# Altium footprint library Parts.PcbLib: 12 footprints
Each footprint in its own frame and in the unit in brackets; x right, y up, seen from the top. Pads: shape width x height; smd on the part's side, far side on the other; paste and mask are expansions set on the pad; w line width, h text height; cw(c..) or ccw(c..) is an arc to the next point about the centre after c.
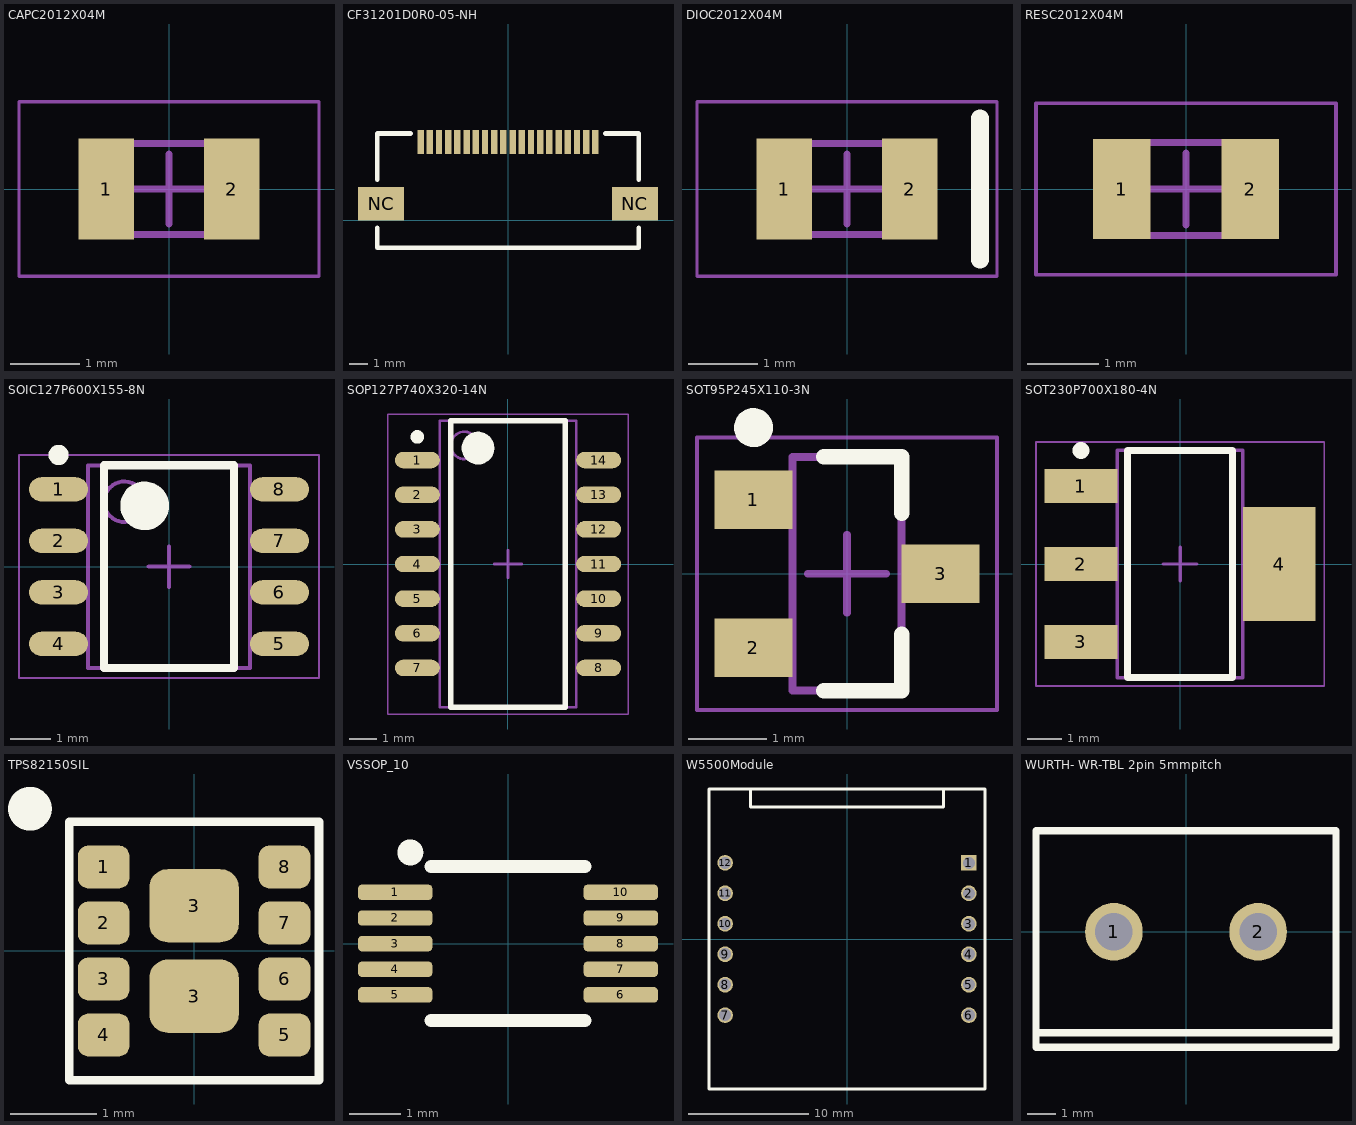
[diagram p0: the footprints below, top view; thin cyan lines are the x and y axes]

## CAPC2012X04M [mm] "Chip Capacitor, 2-Leads, Body 2.00x1.20mm, IPC Low Density"
height 0.45
pads (2):
  rect 0.8x1.45 smd: 1(-0.9,0) 2(0.9,0)
Mechanical 13:
  lines w0.1: -1.05,-0.65 -1.05,0.65 1.05,0.65 1.05,-0.65 -1.05,-0.65
Mechanical 15:
  lines w0.05: -2.15,-1.25 -2.15,1.25 2.15,1.25 2.15,-1.25 -2.15,-1.25
  lines w0.1: -0.5,0 0.5,0 ; 0,-0.5 0,0.5
3D body: height 0.45, standoff 0, extent -0.35,-0.65 0.35,0.65
3D body: height 0.45, standoff 0, extent -1.05,-0.65 -0.35,0.65
3D body: height 0.45, standoff 0, extent 0.35,-0.65 1.05,0.65

## CF31201D0R0-05-NH [mm]
height 2
pads (22):
  rect 0.35x1.3 smd: 1(-4.75,4.25) 2(-4.25,4.25) 3(-3.75,4.25) 4(-3.25,4.25) 5(-2.75,4.25) 6(-2.25,4.25) 7(-1.75,4.25) 8(-1.25,4.25) 9(-0.75,4.25) 10(-0.25,4.25) 11(0.25,4.25) 12(0.75,4.25) 13(1.25,4.25) 14(1.75,4.25) 15(2.25,4.25) 16(2.75,4.25) 17(3.25,4.25) 18(3.75,4.25) 19(4.25,4.25) 20(4.75,4.25)
  rect 2.5x1.8 smd: NC(-6.9,0.9) NC(6.9,0.9)
Top Overlay:
  lines w0.254: -7.1,-0.4 -7.1,-1.5 7.1,-1.5 7.1,-0.4 ; -7.1,2.2 -7.1,4.72 -5.3,4.72 ; 5.3,4.72 7.1,4.72 7.1,2.2

## DIOC2012X04M [mm] "Chip Diode, 2-Leads, Body 2.00x1.20mm, IPC Low Density"
height 0.45
pads (2):
  rect 0.8x1.45 smd: 1(-0.9,0) 2(0.9,0)
Top Overlay:
  lines w0.254: 1.905,-1.016 1.905,1.016
Mechanical 13:
  lines w0.1: -1.05,-0.65 1.05,-0.65 1.05,0.65 -1.05,0.65 -1.05,-0.65
Mechanical 15:
  lines w0.05: -2.15,-1.25 2.15,-1.25 2.15,1.25 -2.15,1.25 -2.15,-1.25
  lines w0.1: -0.5,0 0.5,0 ; 0,-0.5 0,0.5
3D body: height 0.45, standoff 0, extent 0.35,-0.65 1.05,0.65
3D body: height 0.45, standoff 0, extent -1.05,-0.65 -0.35,0.65
3D body: height 0.45, standoff 0, extent -0.35,-0.65 0.35,0.65

## RESC2012X04M [mm] "Chip Resistor, 2-Leads, Body 2.00x1.20mm, IPC Low Density"
height 0.45
pads (2):
  rect 0.8x1.4 smd: 1(-0.9,0) 2(0.9,0)
Mechanical 13:
  lines w0.1: -1.05,-0.65 -1.05,0.65 1.05,0.65 1.05,-0.65 -1.05,-0.65
Mechanical 15:
  lines w0.05: -2.1,-1.2 -2.1,1.2 2.1,1.2 2.1,-1.2 -2.1,-1.2
  lines w0.1: -0.5,0 0.5,0 ; 0,-0.5 0,0.5
3D body: height 0.45, standoff 0, extent -0.35,-0.65 0.35,0.65
3D body: height 0.45, standoff 0, extent -1.05,-0.65 -0.35,0.65
3D body: height 0.45, standoff 0, extent 0.35,-0.65 1.05,0.65

## SOIC127P600X155-8N [mm] "SOIC, 8-Leads, Body 4.90x3.90mm, Pitch 1.27mm, IPC Medium Density"
height 1.55
pads (8):
  oval 1.45x0.6 smd: 1(-2.725,1.905) 2(-2.725,0.635) 3(-2.725,-0.635) 4(-2.725,-1.905) 5(2.725,-1.905) 6(2.725,-0.635) 7(2.725,0.635) 8(2.725,1.905)
Top Overlay:
  circle w0.25: c-2.725,2.755 r0.125
  circle w0.6: c-0.6,1.5 r0.3
  lines w0.2: -1.6,-2.5 -1.6,2.5 1.6,2.5 1.6,-2.5 -1.6,-2.5
Mechanical 13:
  circle w0.1: c-1.1,1.6 r0.5
  lines w0.1: -2,-2.5 -2,2.5 2,2.5 2,-2.5 -2,-2.5
Mechanical 15:
  lines w0.05: -3.7,-2.75 -3.7,2.75 3.7,2.75 3.7,-2.75 -3.7,-2.75
  lines w0.1: -0.5,0 0.5,0 ; 0,-0.5 0,0.5
3D body: height 1.55, standoff 0.18, extent -2,-2.5 2,2.5

## SOP127P740X320-14N [mm] "SOP, 14-Leads, Body 10.30x5.00mm, Pitch 1.27mm, IPC Medium Density"
height 3.2
pads (14):
  oval 1.65x0.6 smd: 1(-3.325,3.81) 2(-3.325,2.54) 3(-3.325,1.27) 4(-3.325,0) 5(-3.325,-1.27) 6(-3.325,-2.54) 7(-3.325,-3.81) 8(3.325,-3.81) 9(3.325,-2.54) 10(3.325,-1.27) 11(3.325,0) 12(3.325,1.27) 13(3.325,2.54) 14(3.325,3.81)
Top Overlay:
  circle w0.6: c-1.1,4.25 r0.3
  circle w0.25: c-3.325,4.66 r0.125
  lines w0.2: -2.1,-5.25 2.1,-5.25 2.1,5.25 -2.1,5.25 -2.1,-5.25
Mechanical 13:
  circle w0.1: c-1.6,4.35 r0.5
  lines w0.1: -2.5,-5.25 2.5,-5.25 2.5,5.25 -2.5,5.25 -2.5,-5.25
Mechanical 15:
  lines w0.05: -4.4,-5.5 4.4,-5.5 4.4,5.5 -4.4,5.5 -4.4,-5.5
  lines w0.1: -0.5,0 0.5,0 ; 0,-0.5 0,0.5
3D body: height 3.2, standoff 0.1, extent -2.5,-5.25 2.5,5.25

## SOT95P245X110-3N [mm] "SOT23, 3-Leads, Body 2.90x2.45mm, Pitch 0.95mm, IPC Medium Density"
height 1.1
pads (3):
  rect 1x0.75 smd: 1(-1.2,0.95) 2(-1.2,-0.95) 3(1.2,0)
Top Overlay:
  circle w0.25: c-1.2,1.875 r0.125
  lines w0.2: -0.3,-1.5 0.7,-1.5 0.7,-0.775 ; -0.3,1.5 0.7,1.5 0.7,0.775
Mechanical 13:
  lines w0.1: -0.7,-1.5 0.7,-1.5 0.7,1.5 -0.7,1.5 -0.7,-1.5
Mechanical 15:
  lines w0.05: -1.925,-1.75 1.925,-1.75 1.925,1.75 -1.925,1.75 -1.925,-1.75
  lines w0.1: -0.5,0 0.5,0 ; 0,-0.5 0,0.5
3D body: height 1.1, standoff 0.1, extent -0.7,-1.5 0.7,1.5

## SOT230P700X180-4N [mm] "SOT223, 4-Leads, Body 6.50x7.00mm (avg), Pitch 2.30mm, IPC Medium Density"
height 1.8
pads (4):
  rect 2.15x1 smd: 1(-2.925,2.3) 2(-2.925,0) 3(-2.925,-2.3)
  rect 2.15x3.35 smd: 4(2.925,0)
Top Overlay:
  circle w0.25: c-2.925,3.35 r0.125
  lines w0.2: -1.55,-3.35 1.55,-3.35 1.55,3.35 -1.55,3.35 -1.55,-3.35
Mechanical 13:
  lines w0.1: -1.85,-3.35 1.85,-3.35 1.85,3.35 -1.85,3.35 -1.85,-3.35
Mechanical 15:
  lines w0.05: -4.25,-3.6 4.25,-3.6 4.25,3.6 -4.25,3.6 -4.25,-3.6
  lines w0.1: -0.5,0 0.5,0 ; 0,-0.5 0,0.5
3D body: height 1.8, standoff 0.02, extent -1.85,-3.35 1.85,3.35

## TPS82150SIL [mm]
pads (10):
  rrect50% 0.6x0.5 smd mask-0.05: 1(-1.05,0.975) 2(-1.05,0.325) 3(-1.05,-0.325) 4(-1.05,-0.975) 5(1.05,-0.975) 6(1.05,-0.325) 7(1.05,0.325) 8(1.05,0.975)
  rrect50% 1.04x0.85 smd mask+0: 3(0,-0.525) 3(0,0.525)
Top Overlay:
  circle w0.254: c-1.905,1.651 r0.127
  lines w0.1: -1.45,-1.5 -1.45,1.5 1.45,1.5 1.45,-1.5 -1.45,-1.5
Top Solder:
  rectangle: -0.52,-0.254 0.508,0.762
  lines w0.05: -0.52,-0.696 ccw(c-0.266,-0.696) -0.266,-0.95 0.266,-0.95 ccw(c0.266,-0.696) 0.52,-0.696 0.52,0.696 ccw(c0.266,0.696) 0.266,0.95 -0.266,0.95 ccw(c-0.266,0.696) -0.52,0.696 -0.52,-0.696

## VSSOP_10 [mm]
height 0.6
pads (10):
  rrect50% 1.45x0.3 smd mask+0.05: 1(-2.2,1) 2(-2.2,0.5) 3(-2.2,0) 4(-2.2,-0.5) 5(-2.2,-1) 6(2.2,-1) 7(2.2,-0.5) 8(2.2,0) 9(2.2,0.5) 10(2.2,1)
Top Overlay:
  circle w0.254: c-1.905,1.778 r0.127
  lines w0.254: -1.5,-1.5 1.5,-1.5 ; -1.5,1.5 1.5,1.5

## W5500Module [mm]
pads (12):
  rect 1.3x1.3 hole 1: 1(10.16,6.35)
  round 1.3 hole 1: 2(10.16,3.81) 3(10.16,1.27) 4(10.16,-1.27) 5(10.16,-3.81) 6(10.16,-6.35) 7(-10.16,-6.35) 8(-10.16,-3.81) 9(-10.16,-1.27) 10(-10.16,1.27) 11(-10.16,3.81) 12(-10.16,6.35)
Top Overlay:
  lines w0.254: -8.05,12.397 -8.05,11 8.05,11 8.05,12.397 ; -11.5,-12.5 11.5,-12.5 11.5,12.5 -11.5,12.5 -11.5,-12.5

## WURTH- WR-TBL 2pin 5mmpitch [mm]
height 11.5
pads (2):
  round 2 hole 1.3: 1(-2.5,0) 2(2.5,0)
Top Overlay:
  lines w0.254: -5.2,-3.5 5.2,-3.5 ; -5.2,-4 5.2,-4 5.2,3.5 -5.2,3.5 -5.2,-4